# Altium footprint library PcbLib1.PcbLib: 23 footprints (part 2 of 2)
Each footprint in its own frame and in the unit in brackets; x right, y up, seen from the top. Pads: shape width x height; smd on the part's side, far side on the other; paste and mask are expansions set on the pad; w line width, h text height; cw(c..) or ccw(c..) is an arc to the next point about the centre after c.
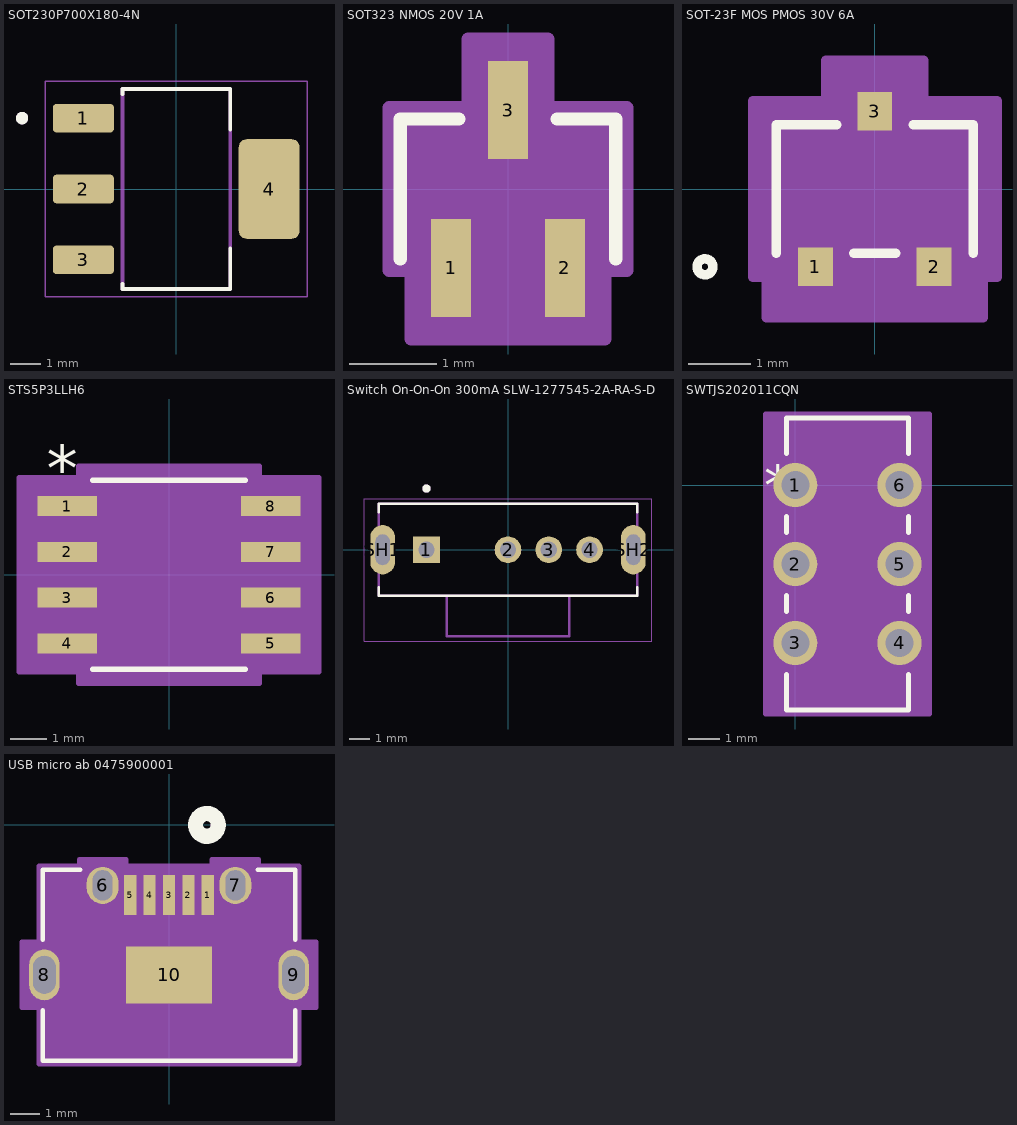
[diagram p1: the footprints below, top view; thin cyan lines are the x and y axes]

## SOT230P700X180-4N [mm]
height 1.8
pads (4):
  rrect25% 1.98x0.93 smd: 1(-3.015,2.3) 2(-3.015,0) 3(-3.015,-2.3)
  rrect25% 1.98x3.23 smd: 4(3.015,0)
Top Overlay:
  circle w0.2: c-5.005,2.3 r0.1
  lines w0.127: -1.75,-3.085 -1.75,-3.25 1.75,-3.25 1.75,-1.935 ; -1.75,3.085 -1.75,3.25 1.75,3.25 1.75,1.935
Mechanical 13:
  circle w0.2: c-5.005,2.3 r0.1
  lines w0.127: -1.75,-3.25 1.75,-3.25 1.75,3.25 -1.75,3.25 -1.75,-3.25
Mechanical 15:
  lines w0.05: -4.255,-3.5 4.255,-3.5 4.255,3.5 -4.255,3.5 -4.255,-3.5
3D body "step_temp.STEP": height 1.8, standoff 0, extent -3.25,-3.499 3.25,3.499

## SOT323 NMOS 20V 1A [mil]
pads (3):
  rect 18x44 smd paste+0 mask+0: 1(-25.59,-35.5) 2(25.59,-35.5) 3(0,35.5)
Top Overlay:
  lines w6: -48.5,-31.5 -48.5,31.5 -22.1,31.5 ; 22.1,31.5 48.5,31.5 48.5,-31.5
Mechanical 13:
  lines w1: -43.5,-26.5 -43.5,26.5 43.5,26.5 43.5,-26.5 -43.5,-26.5 ; -33.59,-43.5 -17.59,-43.5 -17.59,-26.5 -33.59,-26.5 -33.59,-43.5 ; -8,26.5 -8,43.5 8,43.5 8,26.5 -8,26.5 ; 17.59,-43.5 33.59,-43.5 33.59,-26.5 17.59,-26.5 17.59,-43.5
Mechanical 15:
  region: -53.5,-36.5 -53.5,36.5 -18,36.5 -18,67.5 18,67.5 18,36.5 53.5,36.5 53.5,-36.5 43.59,-36.5 43.59,-67.5 -43.59,-67.5 -43.59,-36.5
  lines w6: -53.5,-36.5 -43.59,-36.5 -43.59,-67.5 43.59,-67.5 43.59,-36.5 53.5,-36.5 53.5,36.5 18,36.5 18,67.5 -18,67.5 -18,36.5 -53.5,36.5 -53.5,-36.5
3D body "SOT_12UW-7_DIO.step": height 39.09, standoff 0, extent -43.5,-43.5 43.5,43.5

## SOT-23F MOS PMOS 30V 6A [mil]
pads (3):
  rect 22x24 smd paste+0 mask+2: 1(-37.4,-49) 2(37.4,-49) 3(0,49)
Top Overlay:
  circle w6: c-107,-49 r5
  lines w6: -62,-40.5 -62,40.5 -24.1,40.5 ; -13.3,-40.5 13.3,-40.5 ; 24.1,40.5 62,40.5 62,-40.5
Mechanical 13:
  circle w0: c-47,-25.5 r5
  lines w1: -57,-35.5 57,-35.5 57,35.5 -57,35.5 -57,-35.5 ; -47.4,-49 -47.4,-35.5 -27.4,-35.5 -27.4,-49 -47.4,-49 ; -10,35.5 10,35.5 10,49 -10,49 -10,35.5 ; 27.4,-49 27.4,-35.5 47.4,-35.5 47.4,-49 27.4,-49
Mechanical 15:
  region: -77,-55.5 -77,55.5 -30,55.5 -30,81 30,81 30,55.5 77,55.5 77,-55.5 67.4,-55.5 67.4,-81 -67.4,-81 -67.4,-55.5
  region: 57,-35.5 -57,-35.5 -57,35.5 57,35.5
  lines w6: -77,-55.5 -77,55.5 -31,55.5 -31,81 31,81 31,55.5 77,55.5 77,-55.5 68.4,-55.5 68.4,-81 -68.4,-81 -68.4,-55.5 -77,-55.5
3D body "SOT-23F_TOS.step": height 37.09, standoff 0, extent -57.01,-43.01 57.01,43.01

## STS5P3LLH6 [mil] "P-Channel 30 V 5A (Ta) 2.7W (Ta) Surface Mount 8-SOIC"
pads (8):
  rect 65.5x22 smd paste+0 mask+2: 1(-111.25,75) 2(-111.25,25) 3(-111.25,-25) 4(-111.25,-75) 5(111.25,-75) 6(111.25,-25) 7(111.25,25) 8(111.25,75)
Top Overlay:
  lines w6: -83.5,-103.5 83.5,-103.5 ; -83.5,103.5 83.5,103.5
  text "*" at -133.75,92 h50
Mechanical 13:
  lines w0: -12,98.5 ccw(c0,98.5) 12,98.5
  lines w1: -122,-85 -78.5,-85 -78.5,-65 -122,-65 -122,-85 ; -122,-35 -78.5,-35 -78.5,-15 -122,-15 -122,-35 ; -122,15 -78.5,15 -78.5,35 -122,35 -122,15 ; -122,65 -78.5,65 -78.5,85 -122,85 -122,65 ; -78.5,-98.5 -78.5,98.5 78.5,98.5 78.5,-98.5 -78.5,-98.5 ; 78.5,-85 122,-85 122,-65 78.5,-65 78.5,-85 ; 78.5,-35 122,-35 122,-15 78.5,-15 78.5,-35 ; 78.5,15 122,15 122,35 78.5,35 78.5,15 ; 78.5,65 122,65 122,85 78.5,85 78.5,65
  text "*" at -76,45.5 h50
Mechanical 15:
  region: -98.5,-106 -164,-106 -164,106 -98.5,106 -98.5,118.5 98.5,118.5 98.5,106 164,106 164,-106 98.5,-106 98.5,-118.5 -98.5,-118.5
  lines w6: -164,-106 -98.5,-106 -98.5,-118.5 98.5,-118.5 98.5,-106 164,-106 164,106 98.5,106 98.5,118.5 -98.5,118.5 -98.5,106 -164,106 -164,-106
3D body "SO8_STS5P_STM.step": height 69.09, standoff 0, extent -122.01,-98.5 122.01,98.5

## Switch On-On-On 300mA SLW-1277545-2A-RA-S-D [mm]
pads (6):
  rect 1.308x1.308 / inner round 1.308 / far side rect 1.308x1.308 hole 0.8: 1(-4,0)
  round 1.308 hole 0.8: 2(0,0) 3(2,0) 4(4,0)
  oval 1.208x2.416 hole 0.7 slot 1.5 at 90 deg: SH1(-6.15,0) SH2(6.15,0)
Top Overlay:
  circle w0.2: c-4,3 r0.1
  lines w0.127: -6.35,-1.85 -6.35,-2.25 6.35,-2.25 6.35,-1.85 ; -6.35,1.85 -6.35,2.25 6.35,2.25 6.35,1.85
Mechanical 13:
  circle w0.2: c-4,3 r0.1
  lines w0.127: -3,-2.25 -3,-4.25 3,-4.25 3,-2.25 ; -3,-2.25 3,-2.25 ; -3,-2.25 -6.35,-2.25 -6.35,2.25 6.35,2.25 6.35,-2.25 3,-2.25
Mechanical 15:
  lines w0.05: -7.05,-4.5 7.05,-4.5 7.05,2.5 -7.05,2.5 -7.05,-4.5

## SWTJS202011CQN [mil]
pads (6):
  round 55 / inner round 60 / far side round 55 hole 35 paste-99999 mask+0: 1(0,0) 2(0,-98.43) 3(0,-196.85) 4(129.92,-196.85) 5(129.92,-98.43) 6(129.92,0)
Top Overlay:
  lines w6: -11.04,-235.92 -11.04,-280.43 140.96,-280.43 140.96,-235.92 ; -11.04,-157.78 -11.04,-137.5 ; -11.04,-59.35 -11.04,-39.07 ; -11.04,39.07 -11.04,83.57 140.96,83.57 140.96,39.07 ; 140.96,-157.78 140.96,-137.5 ; 140.96,-59.35 140.96,-39.07
  text "*" at -38.54,-25 h50
Mechanical 13:
  region: 95.46,-128.93 34.46,-128.93 34.46,-98.43 95.46,-98.43
  lines w1: -6.04,-275.43 -6.04,78.57 135.96,78.57 135.96,-275.43 -6.04,-275.43 ; 34.46,-128.93 95.46,-128.93 95.46,-67.93 34.46,-67.93 34.46,-128.93
  text "*" at -3.54,-25 h50
Mechanical 15:
  region: 167.42,-285.43 -37.5,-285.43 -37.5,88.57 167.42,88.57
  lines w6: -37.5,-285.43 -37.5,88.57 167.42,88.57 167.42,-285.43 -37.5,-285.43

## USB micro ab 0475900001 [mil]
pads (10):
  rect 16x53 smd paste+0 mask+0: 1(51.18,-92.46) 2(25.59,-92.46) 3(0,-92.46) 4(-25.59,-92.46) 5(-51.18,-92.46)
  oval 42x49 / inner round 60 / far side oval 42x49 hole 26 slot 40 at 90 deg paste-99999 mask+0: 6(-87.6,-79.66) 7(87.6,-79.66)
  oval 40x67 / inner round 60 / far side oval 40x67 hole 30 slot 50 at 90 deg paste-99999 mask+0: 8(-164.37,-197.77) 9(164.37,-197.77)
  rect 114x75 smd paste-57 mask-57: 10(0,-197.77)
Top Overlay:
  circle w20: c50,0 r15
  lines w6: -166.5,-244.3 -166.5,-310.91 166.5,-310.91 166.5,-244.3 ; -166.5,-151.24 -166.5,-58.91 -117.01,-58.91 ; 117.01,-58.91 166.5,-58.91 166.5,-151.24
Bottom Overlay:
  circle w20: c50,0 r15
Mechanical 13:
  circle w20: c150,-96 r15
  lines w1: -161.5,-305.91 -161.5,-63.91 161.5,-63.91 161.5,-305.91 -161.5,-305.91
Mechanical 15:
  region: 171.5,-53.91 118.6,-53.91 118.6,-45.16 56.6,-45.16 56.6,-53.91 -56.6,-53.91 -56.6,-45.16 -118.6,-45.16 -118.6,-53.91 -171.5,-53.91 -171.5,-154.27 -194.37,-154.27 -194.37,-241.27 -171.5,-241.27 -171.5,-315.91 171.5,-315.91 171.5,-241.27 194.37,-241.27 194.37,-154.27 171.5,-154.27
  lines w6: -194.37,-241.27 -171.5,-241.27 -171.5,-315.91 171.5,-315.91 171.5,-241.27 194.37,-241.27 194.37,-154.27 171.5,-154.27 171.5,-53.91 118.6,-53.91 118.6,-45.16 56.6,-45.16 56.6,-53.91 -56.6,-53.91 -56.6,-45.16 -118.6,-45.16 -118.6,-53.91 -171.5,-53.91 -171.5,-154.27 -194.37,-154.27 -194.37,-241.27